# Altium footprint library ESP8266_SHIELD.PcbLib: 1 footprints
Each footprint in its own frame and in the unit in brackets; x right, y up, seen from the top. Pads: shape width x height; smd on the part's side, far side on the other; paste and mask are expansions set on the pad; w line width, h text height; cw(c..) or ccw(c..) is an arc to the next point about the centre after c.
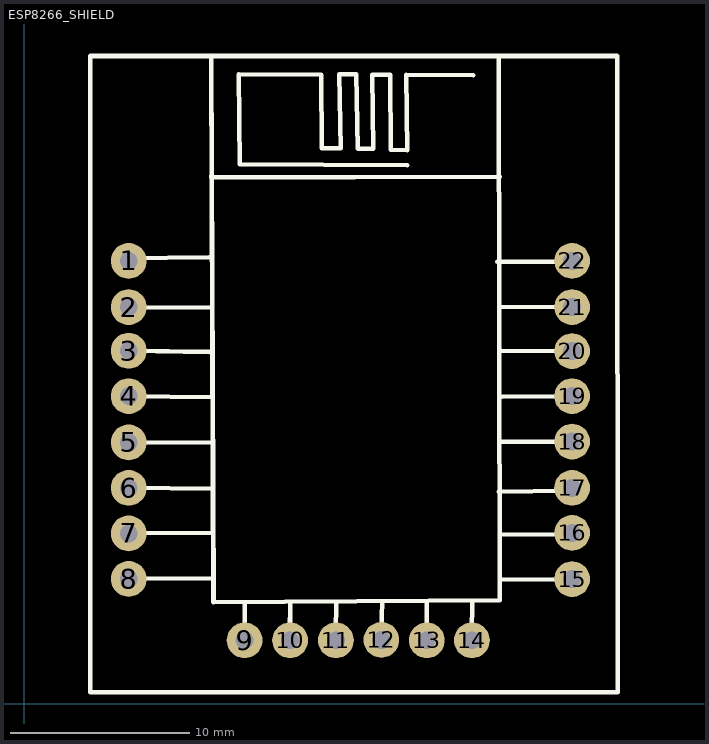
[diagram p0: the footprint, top view; thin cyan lines are the x and y axes]

## ESP8266_SHIELD [mm] "ESP8266_SHIELD"
pads (22):
  round 2 hole 1: 1(5.825,24.75) 2(5.825,22.17) 3(5.825,19.73) 4(5.825,17.19) 5(5.825,14.61) 6(5.825,12.07) 7(5.825,9.52) 8(5.825,6.98) 9(12.3,3.55) 10(14.84,3.55) 11(17.4,3.55) 12(19.94,3.57) 13(22.48,3.55) 14(25,3.55) 15(30.6,6.97) 16(30.6,9.55) 17(30.6,12.07) 18(30.6,14.65) 19(30.6,17.19) 20(30.6,19.71) 21(30.6,22.17) 22(30.6,24.75)
Top Layer:
  lines w0.254: 10.44,36.16 10.44,36.21
Top Overlay:
  lines w0.254: 5.66,24.91 10.33,24.95 ; 5.825,6.98 10.55,7.02 ; 5.825,9.52 10.55,9.57 ; 5.825,12.07 10.43,12.03 ; 5.825,14.61 10.43,14.58 ; 5.825,17.19 10.43,17.13 ; 5.825,19.73 10.39,19.66 ; 5.825,22.17 10.43,22.14 ; 10.44,29.51 10.44,29.41 26.55,29.46 ; 10.44,36.07 10.561,5.685 26.558,5.785 26.51,36.21 ; 12.296,3.95 12.32,5.68 ; 14.836,3.95 14.84,5.71 ; 17.396,3.95 17.43,5.71 ; 19.936,3.95 19.98,5.74 ; 21.38,30.1 12.02,30.15 11.97,35.18 16.58,35.15 16.6,31.05 17.67,31.05 17.58,35.18 18.55,35.18 18.62,31.03 19.5,31.01 19.43,35.15 20.43,35.15 20.47,30.96 21.38,30.94 21.33,35.15 21.332,35.154 25.08,35.13 ; 22.47,5.74 22.476,3.95 ; 25,3.95 25.02,5.71 ; 26.42,24.7 30.37,24.7 ; 26.51,11.84 30.34,11.91 ; 26.55,6.93 30.6,6.97 ; 26.55,9.45 30.34,9.48 ; 26.61,22.18 30.6,22.17 ; 26.64,19.72 30.6,19.71 ; 26.67,14.64 30.6,14.65 ; 26.67,17.17 30.6,17.19 ; 3.675,0.65 3.675,36.2 33.125,36.2 33.15,0.65 3.675,0.65
3D body: height 3, standoff 0, extent 3.564,0.65 33.22,36.24
3D body "ESP-12F.STEP": height 6.17, standoff 3, extent 10.525,11.175 26.525,35.175